# Altium footprint library BMS_PcbLib.PcbLib: 13 footprints
Each footprint in its own frame and in the unit in brackets; x right, y up, seen from the top. Pads: shape width x height; smd on the part's side, far side on the other; paste and mask are expansions set on the pad; w line width, h text height; cw(c..) or ccw(c..) is an arc to the next point about the centre after c.
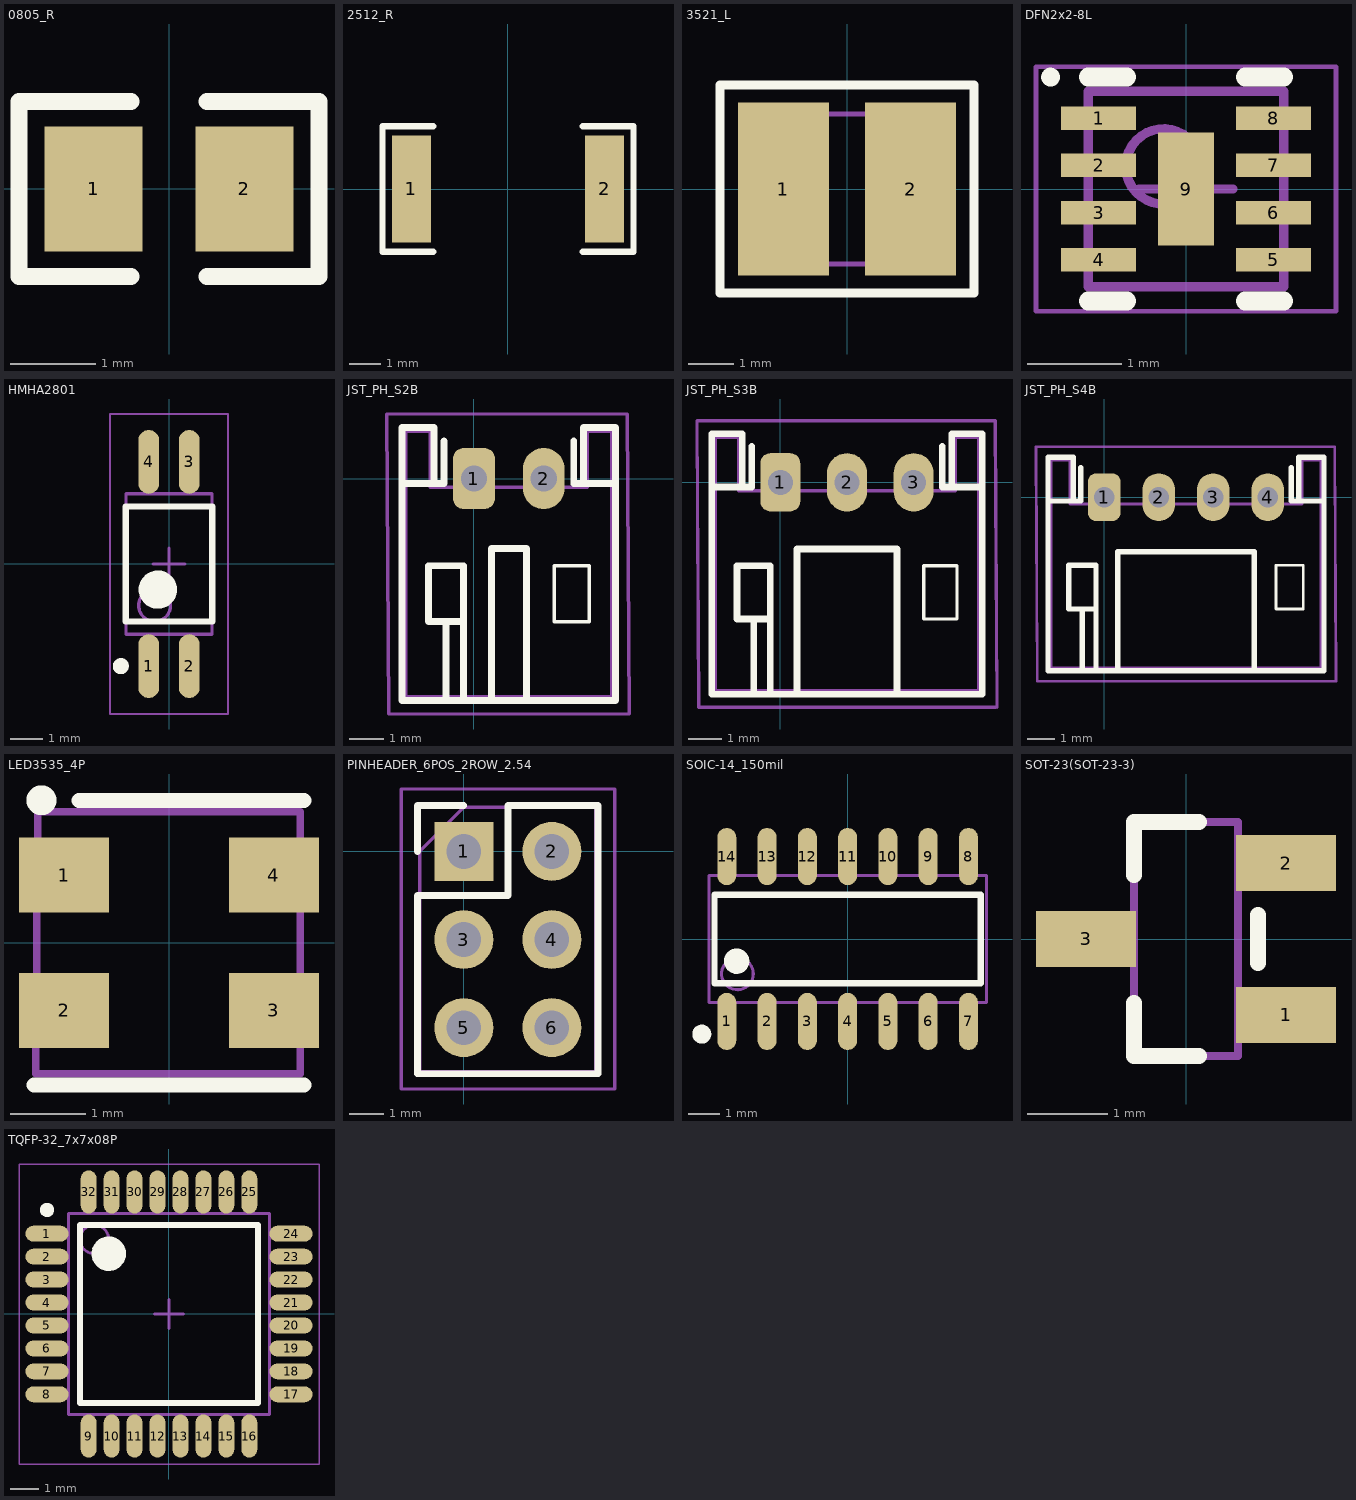
[diagram p0: the footprints below, top view; thin cyan lines are the x and y axes]

## 0805_R [mm]
pads (2):
  rect 1.16x1.47 smd: 1(-0.89,0) 2(0.89,0)
Top Overlay:
  lines w0.2: -0.45,-1.035 -1.77,-1.035 -1.77,1.035 -0.45,1.035 ; 0.45,-1.035 1.77,-1.035 1.77,1.035 0.45,1.035
3D body "User Library-R_0805.STEP": height 0.49, standoff -0.01, extent -0.997,-0.625 1.003,0.625

## 2512_R [mm]
pads (2):
  rect 1.25x3.42 smd: 1(-3.1,0) 2(3.1,0)
Top Overlay:
  lines w0.2: -2.4,-2.01 -4.025,-2.01 -4.025,2.01 -2.4,2.01 ; 2.4,-2.01 4.025,-2.01 4.025,2.01 2.4,2.01
3D body "User Library-res2512_body.STEP": height 0.62, standoff 0, extent -3.159,-1.6 3.16,1.6

## 3521_L [mm]
pads (2):
  rect 2x3.8 smd: 1(-1.4,0) 2(1.4,0)
Top Overlay:
  lines w0.2: -2.794,-2.286 2.794,-2.286 2.794,2.286 -2.794,2.286 -2.794,-2.286
Mechanical 13:
  lines w0.1: -1.9,-1.65 1.9,-1.65 1.9,1.65 -1.9,1.65 -1.9,-1.65
3D body "L_Wuerth_MAPI-3020.step": height 2, standoff 0, extent -1.5,-1.5 1.5,1.5

## DFN2x2-8L [mm]
height 0.8
pads (9):
  rect 0.8x0.25 smd: 1(-0.93,0.75) 2(-0.93,0.25) 3(-0.93,-0.25) 4(-0.93,-0.75) 5(0.93,-0.75) 6(0.93,-0.25) 7(0.93,0.25) 8(0.93,0.75)
  rect 0.6x1.2 smd: 9(0,0)
Top Overlay:
  circle w0.1: c-1.44,1.19 r0.05
  lines w0.2: -1.04,-1.19 -0.63,-1.19 ; -1.04,1.19 -0.63,1.19 ; 0.63,-1.19 1.04,-1.19 ; 0.63,1.19 1.04,1.19
Mechanical 13:
  circle w0.1: c-0.24,0.24 r0.4
  lines w0.1: -1.04,-1.04 -1.04,1.04 1.04,1.04 1.04,-1.04 -1.04,-1.04
Mechanical 15:
  lines w0.05: -1.595,-1.3 -1.595,1.3 1.595,1.3 1.595,-1.3 -1.595,-1.3
  lines w0.1: -0.5,0 0.5,0 ; 0,-0.5 0,0.5
3D body "DFN2x2-8L.step": height 0.8, standoff 0, extent -1.09,-1.04 1.09,1.04

## HMHA2801 [mm]
height 2.39
pads (4):
  oval 0.65x2 smd: 1(-0.635,-3.2) 2(0.635,-3.2) 3(0.635,3.2) 4(-0.635,3.2)
Top Overlay:
  circle w0.25: c-1.51,-3.2 r0.125
  circle w0.6: c-0.35,-0.8 r0.3
  lines w0.2: -1.35,-1.8 1.35,-1.8 1.35,1.8 -1.35,1.8 -1.35,-1.8
Mechanical 13:
  circle w0.1: c-0.45,-1.3 r0.5
  lines w0.1: -1.35,-2.2 1.35,-2.2 1.35,2.2 -1.35,2.2 -1.35,-2.2
Mechanical 15:
  lines w0.05: -1.85,-4.7 1.85,-4.7 1.85,4.7 -1.85,4.7 -1.85,-4.7
  lines w0.1: -0.5,0 0.5,0 ; 0,-0.5 0,0.5
3D body "HMHA2801 v2.step": height 2.39, standoff 0, extent -1.35,-3.397 1.35,3.398

## JST_PH_S2B [mm]
pads (2):
  rrect50% 1.2x1.75 hole 0.75: 1(0,0)
  oval 1.2x1.75 hole 0.75: 2(2,0)
Top Overlay:
  lines w0.1: 2.3,-4.1 2.3,-2.5 3.3,-2.5 3.3,-4.1 2.3,-4.1
  lines w0.2: -2.06,-0.14 -1.14,-0.14 ; -0.86,1.075 -0.86,-0.14 -1.14,-0.14 ; -0.8,-6.36 -0.8,-4.1 ; -0.3,-6.36 -0.3,-4.1 ; 0.5,-6.36 0.5,-2 1.5,-2 1.5,-6.36 ; 2.86,1.075 2.86,-0.14 3.14,-0.14 ; 4.06,-0.14 3.14,-0.14 ; -1.14,-0.14 -1.14,1.46 -2.06,1.46 -2.06,-6.36 4.06,-6.36 4.06,1.46 3.14,1.46 3.14,-0.14 ; -0.3,-4.1 -0.3,-2.5 -1.3,-2.5 -1.3,-4.1 -0.3,-4.1
Mechanical 13:
  lines w0.1: -1.95,-6.25 -1.95,1.35 -1.25,1.35 -1.25,-0.25 3.25,-0.25 3.25,1.35 3.95,1.35 3.95,-6.25 -1.95,-6.25
Mechanical 15:
  lines w0.1: -2.5,1.85 4.4,1.85 4.45,-6.75 -2.45,-6.75 -2.5,1.85
3D body "JST_PH_S2B-PH-K_1x02_P2.00mm_Horizontal.step": height 4.85, standoff -3.4, extent -1.95,-6.25 3.95,1.35

## JST_PH_S3B [mm]
pads (3):
  rrect50% 1.2x1.75 hole 0.75: 1(0,0)
  oval 1.2x1.75 hole 0.75: 2(2,0) 3(4,0)
Top Overlay:
  lines w0.1: 4.3,-4.1 4.3,-2.5 5.3,-2.5 5.3,-4.1 4.3,-4.1
  lines w0.2: -2.06,-0.14 -1.14,-0.14 ; -0.86,1.075 -0.86,-0.14 -1.14,-0.14 ; -0.8,-6.36 -0.8,-4.1 ; -0.3,-6.36 -0.3,-4.1 ; 0.5,-6.36 0.5,-2 3.5,-2 3.5,-6.36 ; 4.86,1.075 4.86,-0.14 5.14,-0.14 ; 6.06,-0.14 5.14,-0.14 ; -1.14,-0.14 -1.14,1.46 -2.06,1.46 -2.06,-6.36 6.06,-6.36 6.06,1.46 5.14,1.46 5.14,-0.14 ; -0.3,-4.1 -0.3,-2.5 -1.3,-2.5 -1.3,-4.1 -0.3,-4.1
Mechanical 13:
  lines w0.1: -1.95,-6.25 -1.95,1.35 -1.25,1.35 -1.25,-0.25 5.25,-0.25 5.25,1.35 5.95,1.35 5.95,-6.25 -1.95,-6.25
Mechanical 15:
  lines w0.1: 6.45,-6.75 -2.45,-6.75 -2.5,1.85 6.45,1.85 6.5,-6.75
3D body "JST_PH_S3B-PH-K_1x03_P2.00mm_Horizontal.step": height 4.85, standoff -3.4, extent -1.95,-6.25 5.95,1.35

## JST_PH_S4B [mm]
pads (4):
  rrect50% 1.2x1.75 hole 0.75: 1(0,0)
  oval 1.2x1.75 hole 0.75: 2(2,0) 3(4,0) 4(6,0)
Top Overlay:
  lines w0.1: 6.3,-4.1 7.3,-4.1 7.3,-2.5 6.3,-2.5 6.3,-4.1
  lines w0.2: -2.06,-0.14 -1.14,-0.14 ; -0.86,1.075 -0.86,-0.14 -1.14,-0.14 ; -0.8,-6.36 -0.8,-4.1 ; -0.3,-6.36 -0.3,-4.1 ; 0.5,-6.36 0.5,-2 5.5,-2 5.5,-6.36 ; 6.86,1.075 6.86,-0.14 7.14,-0.14 ; 8.06,-0.14 7.14,-0.14 ; -1.14,-0.14 -1.14,1.46 -2.06,1.46 -2.06,-6.36 8.06,-6.36 8.06,1.46 7.14,1.46 7.14,-0.14 ; -0.3,-4.1 -1.3,-4.1 -1.3,-2.5 -0.3,-2.5 -0.3,-4.1
Mechanical 13:
  lines w0.1: -1.95,-6.25 7.95,-6.25 7.95,1.35 7.25,1.35 7.25,-0.25 -1.25,-0.25 -1.25,1.35 -1.95,1.35 -1.95,-6.25
Mechanical 15:
  lines w0.1: -2.5,1.85 -2.45,-6.75 8.5,-6.75 8.45,1.85 -2.5,1.85
3D body "JST_PH_S4B-PH-K_1x04_P2.00mm_Horizontal.step": height 4.85, standoff -3.4, extent -1.95,-6.25 7.95,1.35

## LED3535_4P [mm]
pads (4):
  rect 1.2x1 smd: 1(-1.4,0.9) 2(-1.4,-0.9) 3(1.4,-0.9) 4(1.4,0.9)
Top Overlay:
  circle w0.2: c-1.7,1.9 r0.1
  lines w0.2: -1.8,-1.9 1.8,-1.9 ; -1.2,1.9 1.8,1.9
Mechanical 13:
  lines w0.1: -1.778,-1.75 -1.75,1.75 1.75,1.75 1.75,-1.75 -1.75,-1.75
3D body "WS2812B Mini.step": height 1.95, standoff 0, extent -1.84,-1.74 1.84,1.74

## PINHEADER_6POS_2ROW_2.54 [mm]
pads (6):
  rect 1.7x1.7 hole 1: 1(0,0)
  round 1.7 hole 1: 2(2.54,0) 3(0,-2.54) 4(2.54,-2.54) 5(0,-5.08) 6(2.54,-5.08)
Top Overlay:
  lines w0.2: -1.33,0 -1.33,1.33 0,1.33 ; -1.33,-6.41 3.87,-6.41 3.87,1.33 1.27,1.33 1.27,-1.27 -1.33,-1.27 -1.33,-6.41
Mechanical 13:
  lines w0.1: -1.27,-6.35 3.81,-6.35 3.81,1.27 0,1.27 -1.27,0 -1.27,-6.35
Mechanical 15:
  lines w0.1: -1.8,-6.85 -1.8,1.8 4.35,1.8 4.35,-6.85 -1.8,-6.85
3D body "PinHeader_2x03_P2.54mm_Vertical.step": height 8.54, standoff -3, extent -1.27,-6.35 3.81,1.27

## SOIC-14_150mil [mm]
pads (14):
  oval 0.6x1.8 smd: 1(-3.81,-2.6) 2(-2.54,-2.6) 3(-1.27,-2.6) 4(0,-2.6) 5(1.27,-2.6) 6(2.54,-2.6) 7(3.81,-2.6) 8(3.81,2.6) 9(2.54,2.6) 10(1.27,2.6) 11(0,2.6) 12(-1.27,2.6) 13(-2.54,2.6) 14(-3.81,2.6)
Top Overlay:
  circle w0.4: c-3.5,-0.7 r0.2
  circle w0.3: c-4.6,-3 r0.15
  lines w0.2: -4.2,-1.4 -4.2,1.4 4.2,1.4 4.2,-1.4 -4.2,-1.4
Mechanical 13:
  circle w0.1: c-3.475,-1.1 r0.5
  lines w0.1: -4.375,-2 -4.375,2 4.375,2 4.375,-2 -4.375,-2
3D body "SOIC127P600X135-14N.step": height 1.35, standoff 0, extent -4.35,-2.997 4.35,2.997

## SOT-23(SOT-23-3) [mm]
pads (3):
  rect 1.25x0.7 smd: 1(1.25,-0.95) 2(1.25,0.95) 3(-1.25,0)
Top Overlay:
  lines w0.2: -0.65,-0.8 -0.65,-1.46 0.165,-1.46 ; 0.165,1.46 -0.65,1.46 ; 0.9,-0.3 0.9,0.3 ; -0.65,0.8 -0.65,1.46 ; -0.65,0.8 -0.65,1.46 ; -0.65,0.8 -0.65,1.46
Mechanical 13:
  lines w0.1: -0.65,-1.46 -0.65,1.46 ; -0.65,-1.46 0.65,-1.46 ; -0.65,-1.46 -0.65,1.46 ; -0.65,-1.46 0.65,-1.46 ; -0.65,-1.46 0.65,-1.46 ; -0.65,-1.46 -0.65,1.46 ; -0.65,1.46 0.65,1.46 ; -0.65,1.46 0.65,1.46 ; -0.65,1.46 0.65,1.46 ; 0.65,-1.46 0.65,1.46 ; 0.65,-1.46 0.65,1.46 ; 0.65,-1.46 0.65,1.46
3D body "SOT-23.step": height 1.3, standoff 0, extent -1.5,-1.5 1.5,1.5

## TQFP-32_7x7x08P [mm] "TQFP, 32-Leads, Body 7,00x7,00mm, Pitch 0,80mm, IPC Medium Density"
height 1.2
pads (32):
  oval 1.5x0.55 smd: 1(-4.25,2.8) 2(-4.25,2) 3(-4.25,1.2) 4(-4.25,0.4) 5(-4.25,-0.4) 6(-4.25,-1.2) 7(-4.25,-2) 8(-4.25,-2.8) 17(4.25,-2.8) 18(4.25,-2) 19(4.25,-1.2) 20(4.25,-0.4) 21(4.25,0.4) 22(4.25,1.2) 23(4.25,2) 24(4.25,2.8)
  oval 0.55x1.5 smd: 9(-2.8,-4.25) 10(-2,-4.25) 11(-1.2,-4.25) 12(-0.4,-4.25) 13(0.4,-4.25) 14(1.2,-4.25) 15(2,-4.25) 16(2.8,-4.25) 25(2.8,4.25) 26(2,4.25) 27(1.2,4.25) 28(0.4,4.25) 29(-0.4,4.25) 30(-1.2,4.25) 31(-2,4.25) 32(-2.8,4.25)
Top Overlay:
  circle w0.6: c-2.1,2.1 r0.3
  circle w0.25: c-4.25,3.625 r0.125
  lines w0.2: -3.1,-3.1 3.1,-3.1 3.1,3.1 -3.1,3.1 -3.1,-3.1
Mechanical 13:
  circle w0.1: c-2.6,2.6 r0.5
  lines w0.1: -3.5,-3.5 3.5,-3.5 3.5,3.5 -3.5,3.5 -3.5,-3.5
Mechanical 15:
  lines w0.05: -5.225,-5.225 5.225,-5.225 5.225,5.225 -5.225,5.225 -5.225,-5.225
  lines w0.1: -0.5,0 0.5,0 ; 0,-0.5 0,0.5
3D body "TQFP-32_7x7x08P.step": height 1.2, standoff 0, extent -4.5,-4.5 4.5,4.5